# EAGLE library part IMX-23 (library BaseApp)
IMX 23 :- 128TQFP Digikey Number :- __MCIMX233CAG4B-ND__
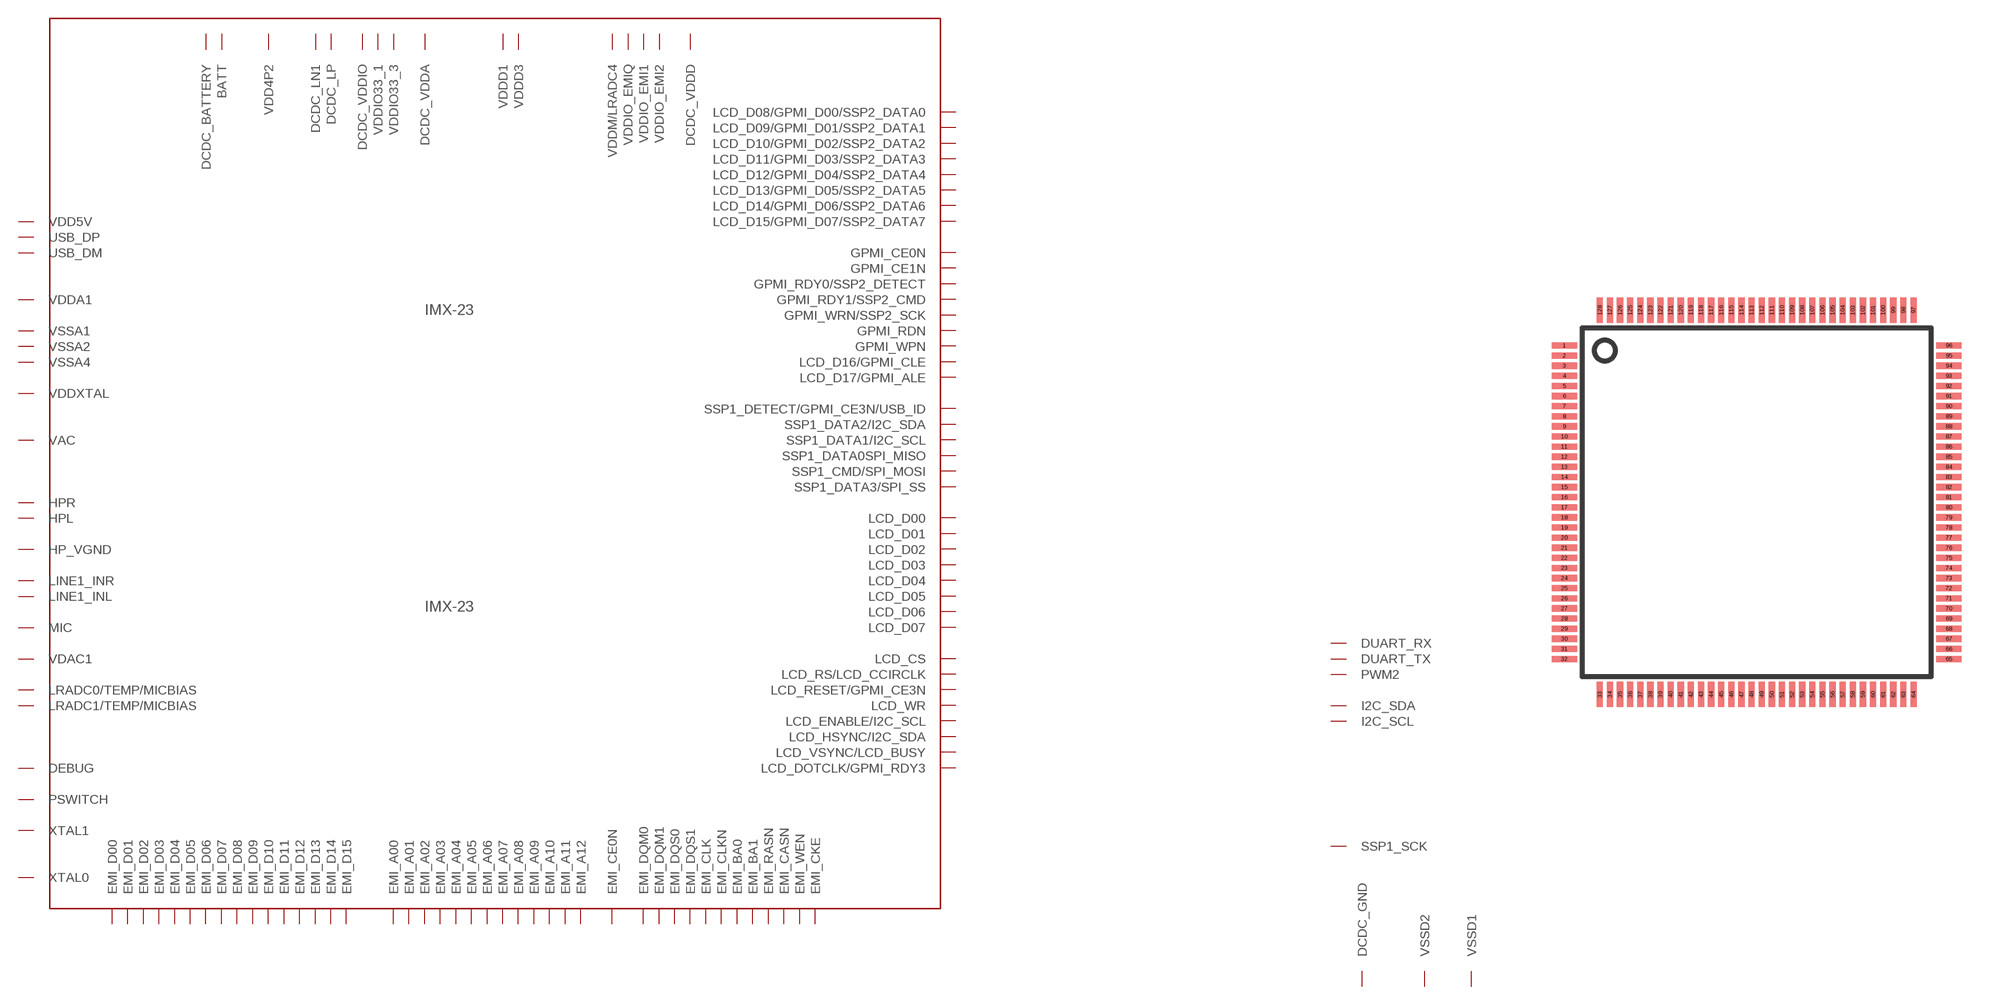
[diagram p12: symbol with the pads of 128TQFP; footprint 128TQFP]

Designator prefix IMX-23

## IMX-23  [128TQFP]
1  VDDD1
2  LCD_D00  pwr
3  LCD_D01
4  LCD_D02
5  LCD_D03
6  LCD_D04
7  LCD_D05
8  LCD_D06
9  LCD_D07
10  LCD_CS
11  LCD_ENABLE/I2C_SCL
12  LCD_RESET/GPMI_CE3N
13  LCD_WR  nc
14  LCD_RS/LCD_CCIRCLK  in
15  LCD_HSYNC/I2C_SDA  in
16  LCD_VSYNC/LCD_BUSY  pwr
17  LCD_DOTCLK/GPMI_RDY3  in
18  VDDIO33_1  pwr
19  LCD_D16/GPMI_CLE  in
20  LCD_D17/GPMI_ALE  in
21  GPMI_RDY1/SSP2_CMD
22  LCD_D08/GPMI_D00/SSP2_DATA0
23  LCD_D09/GPMI_D01/SSP2_DATA1
24  LCD_D10/GPMI_D02/SSP2_DATA2
25  LCD_D11/GPMI_D03/SSP2_DATA3
26  LCD_D13/GPMI_D05/SSP2_DATA5
27  LCD_D12/GPMI_D04/SSP2_DATA4
28  LCD_D15/GPMI_D07/SSP2_DATA7
29  LCD_D14/GPMI_D06/SSP2_DATA6
30  VSSD1
31  GPMI_RDN  pwr
32  GPMI_RDY0/SSP2_DETECT
33  GPMI_WRN/SSP2_SCK
34  GPMI_WPN  pwr
35  VSSD2
36  EMI_CLK
37  EMI_CLKN
38  VDDIO_EMIQ
39  EMI_DQS0
40  EMI_DQS1
41  EMI_D00
42  EMI_D02
43  EMI_D01
44  EMI_D03
45  VDDIO_EMI1
46  EMI_DQM0
47  EMI_D04  pwr
48  EMI_D05  in
49  EMI_D06  nc
50  EMI_D07  pwr
51  EMI_D08
52  EMI_D09
53  VDDIO_EMI2
54  EMI_D10
55  EMI_D11
56  EMI_DQM1
57  EMI_D12
58  EMI_D13
59  EMI_D15
60  EMI_D14
61  EMI_CASN
62  EMI_RASN
63  EMI_CE0N  pwr
64  EMI_A12
65  EMI_A11
66  EMI_A10  pwr
67  EMI_A09
68  EMI_A08
69  EMI_A07
70  EMI_A06
71  EMI_A05
72  EMI_A04
73  EMI_A03
74  EMI_A02
75  EMI_A01
76  EMI_A00
77  EMI_WEN  in
78  EMI_CKE  in
79  EMI_BA0  pwr
80  EMI_BA1  in
81  GPMI_CE1N  pwr
82  GPMI_CE0N  nc
83  SSP1_CMD/SPI_MOSI  in
84  SSP1_DATA0SPI_MISO  in
85  SSP1_DATA1/I2C_SCL
86  SSP1_DATA2/I2C_SDA
87  SSP1_DATA3/SPI_SS
88  SSP1_DETECT/GPMI_CE3N/USB_ID
89  DEBUG
90  SSP1_SCK
91  PWM2
92  VDDIO33_3
93  VDDD3
94  DCDC_VDDD
95  DCDC_VDDIO  pwr
96  DCDC_VDDA
97  DCDC_LN1
98  DCDC_GND  pwr
99  DCDC_LP
100  DCDC_BATTERY
101  VDD4P2
102  VDD5V
103  BATT
104  VDAC1
105  VSSA4
106  VDDM/LRADC4
107  LRADC1/TEMP/MICBIAS
108  LRADC0/TEMP/MICBIAS
109  HPR
110  VDDA1
111  HP_VGND  pwr
112  VSSA1
113  HPL  in
114  LINE1_INR  pwr
115  LINE1_INL
116  MIC
117  VAC
118  VSSA2
119  PSWITCH
120  VDDXTAL
121  XTAL0
122  XTAL1
123  USB_DM
124  USB_DP
125  DUART_RX
126  DUART_TX
127  I2C_SCL  pwr
128  I2C_SDA

## Footprint 128TQFP (pad centres in mm)
smd 1 x 0.25: 1 -7.6,6.2; 2 -7.6,5.8; 3 -7.6,5.4; 4 -7.6,5; 5 -7.6,4.6; 6 -7.6,4.2; 7 -7.6,3.8; 8 -7.6,3.4; 9 -7.6,3; 10 -7.6,2.6; 11 -7.6,2.2; 12 -7.6,1.8; 13 -7.6,1.4; 14 -7.6,1; 15 -7.6,0.6; 16 -7.6,0.2; 17 -7.6,-0.2; 18 -7.6,-0.6; 19 -7.6,-1; 20 -7.6,-1.4; 21 -7.6,-1.8; 22 -7.6,-2.2; 23 -7.6,-2.6; 24 -7.6,-3; 25 -7.6,-3.4; 26 -7.6,-3.8; 27 -7.6,-4.2; 28 -7.6,-4.6; 29 -7.6,-5; 30 -7.6,-5.4; 31 -7.6,-5.8; 32 -7.6,-6.2; 65 7.6,-6.2; 66 7.6,-5.8; 67 7.6,-5.4; 68 7.6,-5; 69 7.6,-4.6; 70 7.6,-4.2; 71 7.6,-3.8; 72 7.6,-3.4; 73 7.6,-3; 74 7.6,-2.6; 75 7.6,-2.2; 76 7.6,-1.8; 77 7.6,-1.4; 78 7.6,-1; 79 7.6,-0.6; 80 7.6,-0.2; 81 7.6,0.2; 82 7.6,0.6; 83 7.6,1; 84 7.6,1.4; 85 7.6,1.8; 86 7.6,2.2; 87 7.6,2.6; 88 7.6,3; 89 7.6,3.4; 90 7.6,3.8; 91 7.6,4.2; 92 7.6,4.6; 93 7.6,5; 94 7.6,5.4; 95 7.6,5.8; 96 7.6,6.2
smd 0.25 x 1: 33 -6.2,-7.6; 34 -5.8,-7.6; 35 -5.4,-7.6; 36 -5,-7.6; 37 -4.6,-7.6; 38 -4.2,-7.6; 39 -3.8,-7.6; 40 -3.4,-7.6; 41 -3,-7.6; 42 -2.6,-7.6; 43 -2.2,-7.6; 44 -1.8,-7.6; 45 -1.4,-7.6; 46 -1,-7.6; 47 -0.6,-7.6; 48 -0.2,-7.6; 49 0.2,-7.6; 50 0.6,-7.6; 51 1,-7.6; 52 1.4,-7.6; 53 1.8,-7.6; 54 2.2,-7.6; 55 2.6,-7.6; 56 3,-7.6; 57 3.4,-7.6; 58 3.8,-7.6; 59 4.2,-7.6; 60 4.6,-7.6; 61 5,-7.6; 62 5.4,-7.6; 63 5.8,-7.6; 64 6.2,-7.6; 97 6.2,7.6; 98 5.8,7.6; 99 5.4,7.6; 100 5,7.6; 101 4.6,7.6; 102 4.2,7.6; 103 3.8,7.6; 104 3.4,7.6; 105 3,7.6; 106 2.6,7.6; 107 2.2,7.6; 108 1.8,7.6; 109 1.4,7.6; 110 1,7.6; 111 0.6,7.6; 112 0.2,7.6; 113 -0.2,7.6; 114 -0.6,7.6; 115 -1,7.6; 116 -1.4,7.6; 117 -1.8,7.6; 118 -2.2,7.6; 119 -2.6,7.6; 120 -3,7.6; 121 -3.4,7.6; 122 -3.8,7.6; 123 -4.2,7.6; 124 -4.6,7.6; 125 -5,7.6; 126 -5.4,7.6; 127 -5.8,7.6; 128 -6.2,7.6